# EAGLE library part YC164-JR-071K5 (library YC164-JR-071K5)
Resistor network: Y; 1.5kΩ; SMD; 1206; No.of resistors: 4; 63mW; ±5%
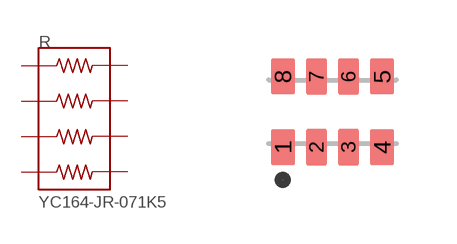
[diagram p0: symbol with the pads of RESCAXS80P320X160X70-8N; footprint RESCAXS80P320X160X70-8N]

Designator prefix R

## YC164-JR-071K5 (Availability: Unavailable; Description: Resistor network: Y; 1.5kΩ; SMD; 1206; No.of resistors: 4; 63mW; ±5%; MF: Yageo; MP: YC164-JR-071K5; Package: 1206 Yageo; Price: None)  [RESCAXS80P320X160X70-8N]
1  1  pas
2  2  pas
3  3  pas
4  4  pas
5  5  pas
6  6  pas
7  7  pas
8  8  pas

## Footprint RESCAXS80P320X160X70-8N (pad centres in mm)
smd 0.61 x 0.9: 1 -1.24,-0.885; 4 1.24,-0.885; 5 1.24,0.885; 8 -1.24,0.885
smd 0.53 x 0.9: 2 -0.4,-0.885; 3 0.4,-0.885; 6 0.4,0.885; 7 -0.4,0.885